# Altium schematic symbol library WA-SMSR.SchLib: 52 symbols
Pins are listed as number, name and electrical type; pins without a type are passive.

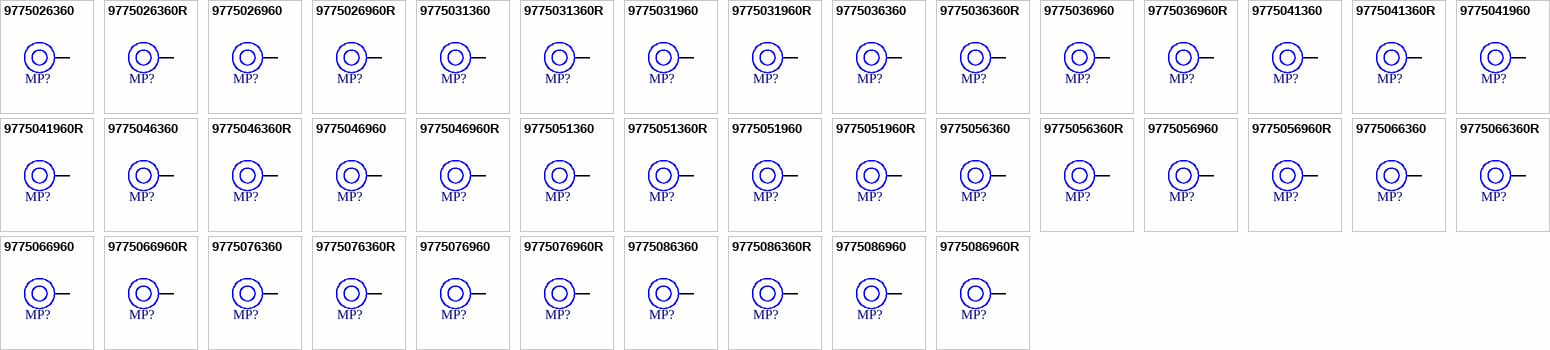
[diagram p0: symbols 9775026360 to 9775086960R]

## 9775026360
designator MP?, comment M3 x 2.6mm  (value not drawn)
WA-SMSR SMT Steel Spacer Reverse, M3 x 2.6mm; Manufacturer Part Number: 9775026360; Manufacturer: Wurth Elektronik; Inside Diameter: 4.2mm; Outside Diameter: 6mm; Surface: Tin; ComponentLink1Description: Website Link; ComponentLink1URL: https://www.we-online.com/redexpert/article/9775026360?ad; ComponentLink2Description: Datasheet Link; ComponentLink2URL: https://www.we-online.com/redexpert/spec/9775026360?ad; Category: SMT Spacers; Match Code: WA-SMSR; Mount: Surface Mount; Operating Temperature Max: 150°C; Operating Temperature Min: -55°C; Packaging: Bulk; Material: Steel; Pin Length: 2.6mm; Thread Size: M3
footprint 9775026360
pins: 1

## 9775026360R
designator MP?, comment M3 x 2.6mm  (value not drawn)
WA-SMSR SMT Steel Spacer Reverse, M3 x 2.6mm; Manufacturer Part Number: 9775026360R; Manufacturer: Wurth Elektronik; Inside Diameter: 4.2mm; Outside Diameter: 6mm; Surface: Tin; ComponentLink1Description: Website Link; ComponentLink1URL: https://www.we-online.com/redexpert/article/9775026360R?ad; ComponentLink2Description: Datasheet Link; ComponentLink2URL: https://www.we-online.com/redexpert/spec/9775026360R?ad; Category: SMT Spacers; Match Code: WA-SMSR; Mount: Surface Mount; Operating Temperature Max: 150°C; Operating Temperature Min: -55°C; Packaging: Tape and Reel; Material: Steel; Pin Length: 2.6mm; Thread Size: M3
footprint 9775026360
pins: 1

## 9775026960
designator MP?, comment hole 3.2mm x 2.6mm  (value not drawn)
WA-SMSR SMT Steel Spacer Reverse, hole 3.2mm x 2.6mm; Manufacturer Part Number: 9775026960; Manufacturer: Wurth Elektronik; Inside Diameter: 4.2mm; Outside Diameter: 6mm; Surface: Tin; ComponentLink1Description: Website Link; ComponentLink1URL: https://www.we-online.com/redexpert/article/9775026960?ad; ComponentLink2Description: Datasheet Link; ComponentLink2URL: https://www.we-online.com/redexpert/spec/9775026960?ad; Category: SMT Spacers; Match Code: WA-SMSR; Mount: Surface Mount; Operating Temperature Max: 150°C; Operating Temperature Min: -55°C; Packaging: Bulk; Hole Diameter: 3.2mm; Material: Steel; Pin Length: 2.6mm
footprint 9775026960
pins: 1

## 9775026960R
designator MP?, comment hole 3.2mm x 2.6mm  (value not drawn)
WA-SMSR SMT Steel Spacer Reverse, hole 3.2mm x 2.6mm; Manufacturer Part Number: 9775026960R; Manufacturer: Wurth Elektronik; Inside Diameter: 4.2mm; Outside Diameter: 6mm; Surface: Tin; ComponentLink1Description: Website Link; ComponentLink1URL: https://www.we-online.com/redexpert/article/9775026960R?ad; ComponentLink2Description: Datasheet Link; ComponentLink2URL: https://www.we-online.com/redexpert/spec/9775026960R?ad; Category: SMT Spacers; Match Code: WA-SMSR; Mount: Surface Mount; Operating Temperature Max: 150°C; Operating Temperature Min: -55°C; Packaging: Tape and Reel; Hole Diameter: 3.2mm; Material: Steel; Pin Length: 2.6mm
footprint 9775026960
pins: 1

## 9775031360
designator MP?, comment M3 x 3.1mm  (value not drawn)
WA-SMSR SMT Steel Spacer Reverse, M3 x 3.1mm; Manufacturer Part Number: 9775031360; Manufacturer: Wurth Elektronik; Inside Diameter: 4.2mm; Outside Diameter: 6mm; Surface: Tin; ComponentLink1Description: Website Link; ComponentLink1URL: https://www.we-online.com/redexpert/article/9775031360?ad; ComponentLink2Description: Datasheet Link; ComponentLink2URL: https://www.we-online.com/redexpert/spec/9775031360?ad; Category: SMT Spacers; Match Code: WA-SMSR; Mount: Surface Mount; Operating Temperature Max: 150°C; Operating Temperature Min: -55°C; Packaging: Bulk; Material: Steel; Pin Length: 3.1mm; Thread Size: M3
footprint 9775031360
pins: 1

## 9775031360R
designator MP?, comment M3 x 3.1mm  (value not drawn)
WA-SMSR SMT Steel Spacer Reverse, M3 x 3.1mm; Manufacturer Part Number: 9775031360R; Manufacturer: Wurth Elektronik; Inside Diameter: 4.2mm; Outside Diameter: 6mm; Surface: Tin; ComponentLink1Description: Website Link; ComponentLink1URL: https://www.we-online.com/redexpert/article/9775031360R?ad; ComponentLink2Description: Datasheet Link; ComponentLink2URL: https://www.we-online.com/redexpert/spec/9775031360R?ad; Category: SMT Spacers; Match Code: WA-SMSR; Mount: Surface Mount; Operating Temperature Max: 150°C; Operating Temperature Min: -55°C; Packaging: Tape and Reel; Material: Steel; Pin Length: 3.1mm; Thread Size: M3
footprint 9775031360
pins: 1

## 9775031960
designator MP?, comment hole 3.2mm x 3.1mm  (value not drawn)
WA-SMSR SMT Steel Spacer Reverse, hole 3.2mm x 3.1mm; Manufacturer Part Number: 9775031960; Manufacturer: Wurth Elektronik; Inside Diameter: 4.2mm; Outside Diameter: 6mm; Surface: Tin; ComponentLink1Description: Website Link; ComponentLink1URL: https://www.we-online.com/redexpert/article/9775031960?ad; ComponentLink2Description: Datasheet Link; ComponentLink2URL: https://www.we-online.com/redexpert/spec/9775031960?ad; Category: SMT Spacers; Match Code: WA-SMSR; Mount: Surface Mount; Operating Temperature Max: 150°C; Operating Temperature Min: -55°C; Packaging: Bulk; Hole Diameter: 3.2mm; Material: Steel; Pin Length: 3.1mm
footprint 9775031960
pins: 1

## 9775031960R
designator MP?, comment hole 3.2mm x 3.1mm  (value not drawn)
WA-SMSR SMT Steel Spacer Reverse, hole 3.2mm x 3.1mm; Manufacturer Part Number: 9775031960R; Manufacturer: Wurth Elektronik; Inside Diameter: 4.2mm; Outside Diameter: 6mm; Surface: Tin; ComponentLink1Description: Website Link; ComponentLink1URL: https://www.we-online.com/redexpert/article/9775031960R?ad; ComponentLink2Description: Datasheet Link; ComponentLink2URL: https://www.we-online.com/redexpert/spec/9775031960R?ad; Category: SMT Spacers; Match Code: WA-SMSR; Mount: Surface Mount; Operating Temperature Max: 150°C; Operating Temperature Min: -55°C; Packaging: Tape and Reel; Hole Diameter: 3.2mm; Material: Steel; Pin Length: 3.1mm
footprint 9775031960
pins: 1

## 9775036360
designator MP?, comment M3 x 3.6mm  (value not drawn)
WA-SMSR SMT Steel Spacer Reverse, M3 x 3.6mm; Manufacturer Part Number: 9775036360; Manufacturer: Wurth Elektronik; Inside Diameter: 4.2mm; Outside Diameter: 6mm; Surface: Tin; ComponentLink1Description: Website Link; ComponentLink1URL: https://www.we-online.com/redexpert/article/9775036360?ad; ComponentLink2Description: Datasheet Link; ComponentLink2URL: https://www.we-online.com/redexpert/spec/9775036360?ad; Category: SMT Spacers; Match Code: WA-SMSR; Mount: Surface Mount; Operating Temperature Max: 150°C; Operating Temperature Min: -55°C; Packaging: Bulk; Material: Steel; Pin Length: 3.6mm; Thread Size: M3
footprint 9775036360
pins: 1

## 9775036360R
designator MP?, comment M3 x 3.6mm  (value not drawn)
WA-SMSR SMT Steel Spacer Reverse, M3 x 3.6mm; Manufacturer Part Number: 9775036360R; Manufacturer: Wurth Elektronik; Inside Diameter: 4.2mm; Outside Diameter: 6mm; Surface: Tin; ComponentLink1Description: Website Link; ComponentLink1URL: https://www.we-online.com/redexpert/article/9775036360R?ad; ComponentLink2Description: Datasheet Link; ComponentLink2URL: https://www.we-online.com/redexpert/spec/9775036360R?ad; Category: SMT Spacers; Match Code: WA-SMSR; Mount: Surface Mount; Operating Temperature Max: 150°C; Operating Temperature Min: -55°C; Packaging: Tape and Reel; Material: Steel; Pin Length: 3.6mm; Thread Size: M3
footprint 9775036360
pins: 1

## 9775036960
designator MP?, comment hole 3.2mm x 3.6mm  (value not drawn)
WA-SMSR SMT Steel Spacer Reverse, hole 3.2mm x 3.6mm; Manufacturer Part Number: 9775036960; Manufacturer: Wurth Elektronik; Inside Diameter: 4.2mm; Outside Diameter: 6mm; Surface: Tin; ComponentLink1Description: Website Link; ComponentLink1URL: https://www.we-online.com/redexpert/article/9775036960?ad; ComponentLink2Description: Datasheet Link; ComponentLink2URL: https://www.we-online.com/redexpert/spec/9775036960?ad; Category: SMT Spacers; Match Code: WA-SMSR; Mount: Surface Mount; Operating Temperature Max: 150°C; Operating Temperature Min: -55°C; Packaging: Bulk; Hole Diameter: 3.2mm; Material: Steel; Pin Length: 3.6mm
footprint 9775036960
pins: 1

## 9775036960R
designator MP?, comment hole 3.2mm x 3.6mm  (value not drawn)
WA-SMSR SMT Steel Spacer Reverse, hole 3.2mm x 3.6mm; Manufacturer Part Number: 9775036960R; Manufacturer: Wurth Elektronik; Inside Diameter: 4.2mm; Outside Diameter: 6mm; Surface: Tin; ComponentLink1Description: Website Link; ComponentLink1URL: https://www.we-online.com/redexpert/article/9775036960R?ad; ComponentLink2Description: Datasheet Link; ComponentLink2URL: https://www.we-online.com/redexpert/spec/9775036960R?ad; Category: SMT Spacers; Match Code: WA-SMSR; Mount: Surface Mount; Operating Temperature Max: 150°C; Operating Temperature Min: -55°C; Packaging: Tape and Reel; Hole Diameter: 3.2mm; Material: Steel; Pin Length: 3.6mm
footprint 9775036960
pins: 1

## 9775041360
designator MP?, comment M3 x 4.1mm  (value not drawn)
WA-SMSR SMT Steel Spacer Reverse, M3 x 4.1mm; Manufacturer Part Number: 9775041360; Manufacturer: Wurth Elektronik; Inside Diameter: 4.2mm; Outside Diameter: 6mm; Surface: Tin; ComponentLink1Description: Website Link; ComponentLink1URL: https://www.we-online.com/redexpert/article/9775041360?ad; ComponentLink2Description: Datasheet Link; ComponentLink2URL: https://www.we-online.com/redexpert/spec/9775041360?ad; Category: SMT Spacers; Match Code: WA-SMSR; Mount: Surface Mount; Operating Temperature Max: 150°C; Operating Temperature Min: -55°C; Packaging: Bulk; Material: Steel; Pin Length: 4.1mm; Thread Size: M3
footprint 9775041360
pins: 1

## 9775041360R
designator MP?, comment M3 x 4.1mm  (value not drawn)
WA-SMSR SMT Steel Spacer Reverse, M3 x 4.1mm; Manufacturer Part Number: 9775041360R; Manufacturer: Wurth Elektronik; Inside Diameter: 4.2mm; Outside Diameter: 6mm; Surface: Tin; ComponentLink1Description: Website Link; ComponentLink1URL: https://www.we-online.com/redexpert/article/9775041360R?ad; ComponentLink2Description: Datasheet Link; ComponentLink2URL: https://www.we-online.com/redexpert/spec/9775041360R?ad; Category: SMT Spacers; Match Code: WA-SMSR; Mount: Surface Mount; Operating Temperature Max: 150°C; Operating Temperature Min: -55°C; Packaging: Tape and Reel; Material: Steel; Pin Length: 4.1mm; Thread Size: M3
footprint 9775041360
pins: 1

## 9775041960
designator MP?, comment hole 3.2mm x 4.1mm  (value not drawn)
WA-SMSR SMT Steel Spacer Reverse, hole 3.2mm x 4.1mm; Manufacturer Part Number: 9775041960; Manufacturer: Wurth Elektronik; Inside Diameter: 4.2mm; Outside Diameter: 6mm; Surface: Tin; ComponentLink1Description: Website Link; ComponentLink1URL: https://www.we-online.com/redexpert/article/9775041960?ad; ComponentLink2Description: Datasheet Link; ComponentLink2URL: https://www.we-online.com/redexpert/spec/9775041960?ad; Category: SMT Spacers; Match Code: WA-SMSR; Mount: Surface Mount; Operating Temperature Max: 150°C; Operating Temperature Min: -55°C; Packaging: Bulk; Hole Diameter: 3.2mm; Material: Steel; Pin Length: 4.1mm
footprint 9775041960
pins: 1

## 9775041960R
designator MP?, comment hole 3.2mm x 4.1mm  (value not drawn)
WA-SMSR SMT Steel Spacer Reverse, hole 3.2mm x 4.1mm; Manufacturer Part Number: 9775041960R; Manufacturer: Wurth Elektronik; Inside Diameter: 4.2mm; Outside Diameter: 6mm; Surface: Tin; ComponentLink1Description: Website Link; ComponentLink1URL: https://www.we-online.com/redexpert/article/9775041960R?ad; ComponentLink2Description: Datasheet Link; ComponentLink2URL: https://www.we-online.com/redexpert/spec/9775041960R?ad; Category: SMT Spacers; Match Code: WA-SMSR; Mount: Surface Mount; Operating Temperature Max: 150°C; Operating Temperature Min: -55°C; Packaging: Tape and Reel; Hole Diameter: 3.2mm; Material: Steel; Pin Length: 4.1mm
footprint 9775041960
pins: 1

## 9775046360
designator MP?, comment M3 x 4.6mm  (value not drawn)
WA-SMSR SMT Steel Spacer Reverse, M3 x 4.6mm; Manufacturer Part Number: 9775046360; Manufacturer: Wurth Elektronik; Inside Diameter: 4.2mm; Outside Diameter: 6mm; Surface: Tin; ComponentLink1Description: Website Link; ComponentLink1URL: https://www.we-online.com/redexpert/article/9775046360?ad; ComponentLink2Description: Datasheet Link; ComponentLink2URL: https://www.we-online.com/redexpert/spec/9775046360?ad; Category: SMT Spacers; Match Code: WA-SMSR; Mount: Surface Mount; Operating Temperature Max: 150°C; Operating Temperature Min: -55°C; Packaging: Bulk; Material: Steel; Pin Length: 4.6mm; Thread Size: M3
footprint 9775046360
pins: 1

## 9775046360R
designator MP?, comment M3 x 4.6mm  (value not drawn)
WA-SMSR SMT Steel Spacer Reverse, M3 x 4.6mm; Manufacturer Part Number: 9775046360R; Manufacturer: Wurth Elektronik; Inside Diameter: 4.2mm; Outside Diameter: 6mm; Surface: Tin; ComponentLink1Description: Website Link; ComponentLink1URL: https://www.we-online.com/redexpert/article/9775046360R?ad; ComponentLink2Description: Datasheet Link; ComponentLink2URL: https://www.we-online.com/redexpert/spec/9775046360R?ad; Category: SMT Spacers; Match Code: WA-SMSR; Mount: Surface Mount; Operating Temperature Max: 150°C; Operating Temperature Min: -55°C; Packaging: Tape and Reel; Material: Steel; Pin Length: 4.6mm; Thread Size: M3
footprint 9775046360
pins: 1

## 9775046960
designator MP?, comment hole 3.2mm x 4.6mm  (value not drawn)
WA-SMSR SMT Steel Spacer Reverse, hole 3.2mm x 4.6mm; Manufacturer Part Number: 9775046960; Manufacturer: Wurth Elektronik; Inside Diameter: 4.2mm; Outside Diameter: 6mm; Surface: Tin; ComponentLink1Description: Website Link; ComponentLink1URL: https://www.we-online.com/redexpert/article/9775046960?ad; ComponentLink2Description: Datasheet Link; ComponentLink2URL: https://www.we-online.com/redexpert/spec/9775046960?ad; Category: SMT Spacers; Match Code: WA-SMSR; Mount: Surface Mount; Operating Temperature Max: 150°C; Operating Temperature Min: -55°C; Packaging: Bulk; Hole Diameter: 3.2mm; Material: Steel; Pin Length: 4.6mm
footprint 9775046960
pins: 1

## 9775046960R
designator MP?, comment hole 3.2mm x 4.6mm  (value not drawn)
WA-SMSR SMT Steel Spacer Reverse, hole 3.2mm x 4.6mm; Manufacturer Part Number: 9775046960R; Manufacturer: Wurth Elektronik; Inside Diameter: 4.2mm; Outside Diameter: 6mm; Surface: Tin; ComponentLink1Description: Website Link; ComponentLink1URL: https://www.we-online.com/redexpert/article/9775046960R?ad; ComponentLink2Description: Datasheet Link; ComponentLink2URL: https://www.we-online.com/redexpert/spec/9775046960R?ad; Category: SMT Spacers; Match Code: WA-SMSR; Mount: Surface Mount; Operating Temperature Max: 150°C; Operating Temperature Min: -55°C; Packaging: Tape and Reel; Hole Diameter: 3.2mm; Material: Steel; Pin Length: 4.6mm
footprint 9775046960
pins: 1

## 9775051360
designator MP?, comment M3 x 5.1mm  (value not drawn)
WA-SMSR SMT Steel Spacer Reverse, M3 x 5.1mm; Manufacturer Part Number: 9775051360; Manufacturer: Wurth Elektronik; Inside Diameter: 4.2mm; Outside Diameter: 6mm; Surface: Tin; ComponentLink1Description: Website Link; ComponentLink1URL: https://www.we-online.com/redexpert/article/9775051360?ad; ComponentLink2Description: Datasheet Link; ComponentLink2URL: https://www.we-online.com/redexpert/spec/9775051360?ad; Category: SMT Spacers; Match Code: WA-SMSR; Mount: Surface Mount; Operating Temperature Max: 150°C; Operating Temperature Min: -55°C; Packaging: Bulk; Material: Steel; Pin Length: 5.1mm; Thread Size: M3
footprint 9775051360
pins: 1

## 9775051360R
designator MP?, comment M3 x 5.1mm  (value not drawn)
WA-SMSR SMT Steel Spacer Reverse, M3 x 5.1mm; Manufacturer Part Number: 9775051360R; Manufacturer: Wurth Elektronik; Inside Diameter: 4.2mm; Outside Diameter: 6mm; Surface: Tin; ComponentLink1Description: Website Link; ComponentLink1URL: https://www.we-online.com/redexpert/article/9775051360R?ad; ComponentLink2Description: Datasheet Link; ComponentLink2URL: https://www.we-online.com/redexpert/spec/9775051360R?ad; Category: SMT Spacers; Match Code: WA-SMSR; Mount: Surface Mount; Operating Temperature Max: 150°C; Operating Temperature Min: -55°C; Packaging: Tape and Reel; Material: Steel; Pin Length: 5.1mm; Thread Size: M3
footprint 9775051360
pins: 1

## 9775051960
designator MP?, comment hole 3.2mm x 5.1mm  (value not drawn)
WA-SMSR SMT Steel Spacer Reverse, hole 3.2mm x 5.1mm; Manufacturer Part Number: 9775051960; Manufacturer: Wurth Elektronik; Inside Diameter: 4.2mm; Outside Diameter: 6mm; Surface: Tin; ComponentLink1Description: Website Link; ComponentLink1URL: https://www.we-online.com/redexpert/article/9775051960?ad; ComponentLink2Description: Datasheet Link; ComponentLink2URL: https://www.we-online.com/redexpert/spec/9775051960?ad; Category: SMT Spacers; Match Code: WA-SMSR; Mount: Surface Mount; Operating Temperature Max: 150°C; Operating Temperature Min: -55°C; Packaging: Bulk; Hole Diameter: 3.2mm; Material: Steel; Pin Length: 5.1mm
footprint 9775051960
pins: 1

## 9775051960R
designator MP?, comment hole 3.2mm x 5.1mm  (value not drawn)
WA-SMSR SMT Steel Spacer Reverse, hole 3.2mm x 5.1mm; Manufacturer Part Number: 9775051960R; Manufacturer: Wurth Elektronik; Inside Diameter: 4.2mm; Outside Diameter: 6mm; Surface: Tin; ComponentLink1Description: Website Link; ComponentLink1URL: https://www.we-online.com/redexpert/article/9775051960R?ad; ComponentLink2Description: Datasheet Link; ComponentLink2URL: https://www.we-online.com/redexpert/spec/9775051960R?ad; Category: SMT Spacers; Match Code: WA-SMSR; Mount: Surface Mount; Operating Temperature Max: 150°C; Operating Temperature Min: -55°C; Packaging: Tape and Reel; Hole Diameter: 3.2mm; Material: Steel; Pin Length: 5.1mm
footprint 9775051960
pins: 1

## 9775056360
designator MP?, comment M3 x 5.6mm  (value not drawn)
WA-SMSR SMT Steel Spacer Reverse, M3 x 5.6mm; Manufacturer Part Number: 9775056360; Manufacturer: Wurth Elektronik; Inside Diameter: 4.2mm; Outside Diameter: 6mm; Surface: Tin; ComponentLink1Description: Website Link; ComponentLink1URL: https://www.we-online.com/redexpert/article/9775056360?ad; ComponentLink2Description: Datasheet Link; ComponentLink2URL: https://www.we-online.com/redexpert/spec/9775056360?ad; Category: SMT Spacers; Match Code: WA-SMSR; Mount: Surface Mount; Operating Temperature Max: 150°C; Operating Temperature Min: -55°C; Packaging: Bulk; Material: Steel; Pin Length: 5.6mm; Thread Size: M3
footprint 9775056360
pins: 1

## 9775056360R
designator MP?, comment M3 x 5.6mm  (value not drawn)
WA-SMSR SMT Steel Spacer Reverse, M3 x 5.6mm; Manufacturer Part Number: 9775056360R; Manufacturer: Wurth Elektronik; Inside Diameter: 4.2mm; Outside Diameter: 6mm; Surface: Tin; ComponentLink1Description: Website Link; ComponentLink1URL: https://www.we-online.com/redexpert/article/9775056360R?ad; ComponentLink2Description: Datasheet Link; ComponentLink2URL: https://www.we-online.com/redexpert/spec/9775056360R?ad; Category: SMT Spacers; Match Code: WA-SMSR; Mount: Surface Mount; Operating Temperature Max: 150°C; Operating Temperature Min: -55°C; Packaging: Tape and Reel; Material: Steel; Pin Length: 5.6mm; Thread Size: M3
footprint 9775056360
pins: 1

## 9775056960
designator MP?, comment hole 3.2mm x 5.6mm  (value not drawn)
WA-SMSR SMT Steel Spacer Reverse, hole 3.2mm x 5.6mm; Manufacturer Part Number: 9775056960; Manufacturer: Wurth Elektronik; Inside Diameter: 4.2mm; Outside Diameter: 6mm; Surface: Tin; ComponentLink1Description: Website Link; ComponentLink1URL: https://www.we-online.com/redexpert/article/9775056960?ad; ComponentLink2Description: Datasheet Link; ComponentLink2URL: https://www.we-online.com/redexpert/spec/9775056960?ad; Category: SMT Spacers; Match Code: WA-SMSR; Mount: Surface Mount; Operating Temperature Max: 150°C; Operating Temperature Min: -55°C; Packaging: Bulk; Hole Diameter: 3.2mm; Material: Steel; Pin Length: 5.6mm
footprint 9775056960
pins: 1

## 9775056960R
designator MP?, comment hole 3.2mm x 5.6mm  (value not drawn)
WA-SMSR SMT Steel Spacer Reverse, hole 3.2mm x 5.6mm; Manufacturer Part Number: 9775056960R; Manufacturer: Wurth Elektronik; Inside Diameter: 4.2mm; Outside Diameter: 6mm; Surface: Tin; ComponentLink1Description: Website Link; ComponentLink1URL: https://www.we-online.com/redexpert/article/9775056960R?ad; ComponentLink2Description: Datasheet Link; ComponentLink2URL: https://www.we-online.com/redexpert/spec/9775056960R?ad; Category: SMT Spacers; Match Code: WA-SMSR; Mount: Surface Mount; Operating Temperature Max: 150°C; Operating Temperature Min: -55°C; Packaging: Tape and Reel; Hole Diameter: 3.2mm; Material: Steel; Pin Length: 5.6mm
footprint 9775056960
pins: 1

## 9775066360
designator MP?, comment M3 x 6.6mm  (value not drawn)
WA-SMSR SMT Steel Spacer Reverse, M3 x 6.6mm; Manufacturer Part Number: 9775066360; Manufacturer: Wurth Elektronik; Inside Diameter: 4.2mm; Outside Diameter: 6mm; Surface: Tin; ComponentLink1Description: Website Link; ComponentLink1URL: https://www.we-online.com/redexpert/article/9775066360?ad; ComponentLink2Description: Datasheet Link; ComponentLink2URL: https://www.we-online.com/redexpert/spec/9775066360?ad; Category: SMT Spacers; Match Code: WA-SMSR; Mount: Surface Mount; Operating Temperature Max: 150°C; Operating Temperature Min: -55°C; Packaging: Bulk; Material: Steel; Pin Length: 6.6mm; Thread Size: M3
footprint 9775066360
pins: 1

## 9775066360R
designator MP?, comment M3 x 6.6mm  (value not drawn)
WA-SMSR SMT Steel Spacer Reverse, M3 x 6.6mm; Manufacturer Part Number: 9775066360R; Manufacturer: Wurth Elektronik; Inside Diameter: 4.2mm; Outside Diameter: 6mm; Surface: Tin; ComponentLink1Description: Website Link; ComponentLink1URL: https://www.we-online.com/redexpert/article/9775066360R?ad; ComponentLink2Description: Datasheet Link; ComponentLink2URL: https://www.we-online.com/redexpert/spec/9775066360R?ad; Category: SMT Spacers; Match Code: WA-SMSR; Mount: Surface Mount; Operating Temperature Max: 150°C; Operating Temperature Min: -55°C; Packaging: Tape and Reel; Material: Steel; Pin Length: 6.6mm; Thread Size: M3
footprint 9775066360
pins: 1

## 9775066960
designator MP?, comment hole 3.2mm x 6.6mm  (value not drawn)
WA-SMSR SMT Steel Spacer Reverse, hole 3.2mm x 6.6mm; Manufacturer Part Number: 9775066960; Manufacturer: Wurth Elektronik; Inside Diameter: 4.2mm; Outside Diameter: 6mm; Surface: Tin; ComponentLink1Description: Website Link; ComponentLink1URL: https://www.we-online.com/redexpert/article/9775066960?ad; ComponentLink2Description: Datasheet Link; ComponentLink2URL: https://www.we-online.com/redexpert/spec/9775066960?ad; Category: SMT Spacers; Match Code: WA-SMSR; Mount: Surface Mount; Operating Temperature Max: 150°C; Operating Temperature Min: -55°C; Packaging: Bulk; Hole Diameter: 3.2mm; Material: Steel; Pin Length: 6.6mm
footprint 9775066960
pins: 1

## 9775066960R
designator MP?, comment hole 3.2mm x 6.6mm  (value not drawn)
WA-SMSR SMT Steel Spacer Reverse, hole 3.2mm x 6.6mm; Manufacturer Part Number: 9775066960R; Manufacturer: Wurth Elektronik; Inside Diameter: 4.2mm; Outside Diameter: 6mm; Surface: Tin; ComponentLink1Description: Website Link; ComponentLink1URL: https://www.we-online.com/redexpert/article/9775066960R?ad; ComponentLink2Description: Datasheet Link; ComponentLink2URL: https://www.we-online.com/redexpert/spec/9775066960R?ad; Category: SMT Spacers; Match Code: WA-SMSR; Mount: Surface Mount; Operating Temperature Max: 150°C; Operating Temperature Min: -55°C; Packaging: Tape and Reel; Hole Diameter: 3.2mm; Material: Steel; Pin Length: 6.6mm
footprint 9775066960
pins: 1

## 9775076360
designator MP?, comment M3 x 7.6mm  (value not drawn)
WA-SMSR SMT Steel Spacer Reverse, M3 x 7.6mm; Manufacturer Part Number: 9775076360; Manufacturer: Wurth Elektronik; Inside Diameter: 4.2mm; Outside Diameter: 6mm; Surface: Tin; ComponentLink1Description: Website Link; ComponentLink1URL: https://www.we-online.com/redexpert/article/9775076360?ad; ComponentLink2Description: Datasheet Link; ComponentLink2URL: https://www.we-online.com/redexpert/spec/9775076360?ad; Category: SMT Spacers; Match Code: WA-SMSR; Mount: Surface Mount; Operating Temperature Max: 150°C; Operating Temperature Min: -55°C; Packaging: Bulk; Material: Steel; Pin Length: 7.6mm; Thread Size: M3
footprint 9775076360
pins: 1

## 9775076360R
designator MP?, comment M3 x 7.6mm  (value not drawn)
WA-SMSR SMT Steel Spacer Reverse, M3 x 7.6mm; Manufacturer Part Number: 9775076360R; Manufacturer: Wurth Elektronik; Inside Diameter: 4.2mm; Outside Diameter: 6mm; Surface: Tin; ComponentLink1Description: Website Link; ComponentLink1URL: https://www.we-online.com/redexpert/article/9775076360R?ad; ComponentLink2Description: Datasheet Link; ComponentLink2URL: https://www.we-online.com/redexpert/spec/9775076360R?ad; Category: SMT Spacers; Match Code: WA-SMSR; Mount: Surface Mount; Operating Temperature Max: 150°C; Operating Temperature Min: -55°C; Packaging: Tape and Reel; Material: Steel; Pin Length: 7.6mm; Thread Size: M3
footprint 9775076360
pins: 1

## 9775076960
designator MP?, comment hole 3.2mm x 7.6mm  (value not drawn)
WA-SMSR SMT Steel Spacer Reverse, hole 3.2mm x 7.6mm; Manufacturer Part Number: 9775076960; Manufacturer: Wurth Elektronik; Inside Diameter: 4.2mm; Outside Diameter: 6mm; Surface: Tin; ComponentLink1Description: Website Link; ComponentLink1URL: https://www.we-online.com/redexpert/article/9775076960?ad; ComponentLink2Description: Datasheet Link; ComponentLink2URL: https://www.we-online.com/redexpert/spec/9775076960?ad; Category: SMT Spacers; Match Code: WA-SMSR; Mount: Surface Mount; Operating Temperature Max: 150°C; Operating Temperature Min: -55°C; Packaging: Bulk; Hole Diameter: 3.2mm; Material: Steel; Pin Length: 7.6mm
footprint 9775076960
pins: 1

## 9775076960R
designator MP?, comment hole 3.2mm x 7.6mm  (value not drawn)
WA-SMSR SMT Steel Spacer Reverse, hole 3.2mm x 7.6mm; Manufacturer Part Number: 9775076960R; Manufacturer: Wurth Elektronik; Inside Diameter: 4.2mm; Outside Diameter: 6mm; Surface: Tin; ComponentLink1Description: Website Link; ComponentLink1URL: https://www.we-online.com/redexpert/article/9775076960R?ad; ComponentLink2Description: Datasheet Link; ComponentLink2URL: https://www.we-online.com/redexpert/spec/9775076960R?ad; Category: SMT Spacers; Match Code: WA-SMSR; Mount: Surface Mount; Operating Temperature Max: 150°C; Operating Temperature Min: -55°C; Packaging: Tape and Reel; Hole Diameter: 3.2mm; Material: Steel; Pin Length: 7.6mm
footprint 9775076960
pins: 1

## 9775086360
designator MP?, comment M3 x 8.6mm  (value not drawn)
WA-SMSR SMT Steel Spacer Reverse, M3 x 8.6mm; Manufacturer Part Number: 9775086360; Manufacturer: Wurth Elektronik; Inside Diameter: 4.2mm; Outside Diameter: 6mm; Surface: Tin; ComponentLink1Description: Website Link; ComponentLink1URL: https://www.we-online.com/redexpert/article/9775086360?ad; ComponentLink2Description: Datasheet Link; ComponentLink2URL: https://www.we-online.com/redexpert/spec/9775086360?ad; Category: SMT Spacers; Match Code: WA-SMSR; Mount: Surface Mount; Operating Temperature Max: 150°C; Operating Temperature Min: -55°C; Packaging: Bulk; Material: Steel; Pin Length: 8.6mm; Thread Size: M3
footprint 9775086360
pins: 1

## 9775086360R
designator MP?, comment M3 x 8.6mm  (value not drawn)
WA-SMSR SMT Steel Spacer Reverse, M3 x 8.6mm; Manufacturer Part Number: 9775086360R; Manufacturer: Wurth Elektronik; Inside Diameter: 4.2mm; Outside Diameter: 6mm; Surface: Tin; ComponentLink1Description: Website Link; ComponentLink1URL: https://www.we-online.com/redexpert/article/9775086360R?ad; ComponentLink2Description: Datasheet Link; ComponentLink2URL: https://www.we-online.com/redexpert/spec/9775086360R?ad; Category: SMT Spacers; Match Code: WA-SMSR; Mount: Surface Mount; Operating Temperature Max: 150°C; Operating Temperature Min: -55°C; Packaging: Tape and Reel; Material: Steel; Pin Length: 8.6mm; Thread Size: M3
footprint 9775086360
pins: 1

## 9775086960
designator MP?, comment hole 3.2mm x 8.6mm  (value not drawn)
WA-SMSR SMT Steel Spacer Reverse, hole 3.2mm x 8.6mm; Manufacturer Part Number: 9775086960; Manufacturer: Wurth Elektronik; Inside Diameter: 4.2mm; Outside Diameter: 6mm; Surface: Tin; ComponentLink1Description: Website Link; ComponentLink1URL: https://www.we-online.com/redexpert/article/9775086960?ad; ComponentLink2Description: Datasheet Link; ComponentLink2URL: https://www.we-online.com/redexpert/spec/9775086960?ad; Category: SMT Spacers; Match Code: WA-SMSR; Mount: Surface Mount; Operating Temperature Max: 150°C; Operating Temperature Min: -55°C; Packaging: Bulk; Hole Diameter: 3.2mm; Material: Steel; Pin Length: 8.6mm
footprint 9775086960
pins: 1

## 9775086960R
designator MP?, comment hole 3.2mm x 8.6mm  (value not drawn)
WA-SMSR SMT Steel Spacer Reverse, hole 3.2mm x 8.6mm; Manufacturer Part Number: 9775086960R; Manufacturer: Wurth Elektronik; Inside Diameter: 4.2mm; Outside Diameter: 6mm; Surface: Tin; ComponentLink1Description: Website Link; ComponentLink1URL: https://www.we-online.com/redexpert/article/9775086960R?ad; ComponentLink2Description: Datasheet Link; ComponentLink2URL: https://www.we-online.com/redexpert/spec/9775086960R?ad; Category: SMT Spacers; Match Code: WA-SMSR; Mount: Surface Mount; Operating Temperature Max: 150°C; Operating Temperature Min: -55°C; Packaging: Tape and Reel; Hole Diameter: 3.2mm; Material: Steel; Pin Length: 8.6mm
footprint 9775086960
pins: 1

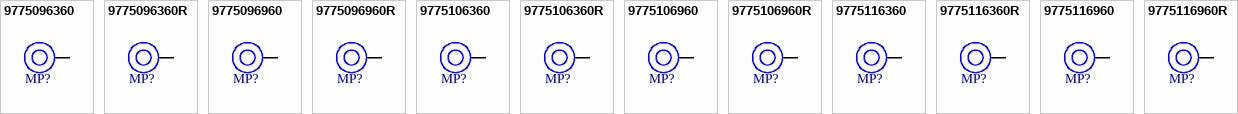
[diagram p1: symbols 9775096360 to 9775116960R]

## 9775096360
designator MP?, comment M3 x 9.6mm  (value not drawn)
WA-SMSR SMT Steel Spacer Reverse, M3 x 9.6mm; Manufacturer Part Number: 9775096360; Manufacturer: Wurth Elektronik; Inside Diameter: 4.2mm; Outside Diameter: 6mm; Surface: Tin; ComponentLink1Description: Website Link; ComponentLink1URL: https://www.we-online.com/redexpert/article/9775096360?ad; ComponentLink2Description: Datasheet Link; ComponentLink2URL: https://www.we-online.com/redexpert/spec/9775096360?ad; Category: SMT Spacers; Match Code: WA-SMSR; Mount: Surface Mount; Operating Temperature Max: 150°C; Operating Temperature Min: -55°C; Packaging: Bulk; Material: Steel; Pin Length: 9.6mm; Thread Size: M3
footprint 9775096360
pins: 1

## 9775096360R
designator MP?, comment M3 x 9.6mm  (value not drawn)
WA-SMSR SMT Steel Spacer Reverse, M3 x 9.6mm; Manufacturer Part Number: 9775096360R; Manufacturer: Wurth Elektronik; Inside Diameter: 4.2mm; Outside Diameter: 6mm; Surface: Tin; ComponentLink1Description: Website Link; ComponentLink1URL: https://www.we-online.com/redexpert/article/9775096360R?ad; ComponentLink2Description: Datasheet Link; ComponentLink2URL: https://www.we-online.com/redexpert/spec/9775096360R?ad; Category: SMT Spacers; Match Code: WA-SMSR; Mount: Surface Mount; Operating Temperature Max: 150°C; Operating Temperature Min: -55°C; Packaging: Tape and Reel; Material: Steel; Pin Length: 9.6mm; Thread Size: M3
footprint 9775096360
pins: 1

## 9775096960
designator MP?, comment hole 3.2mm x 9.6mm  (value not drawn)
WA-SMSR SMT Steel Spacer Reverse, hole 3.2mm x 9.6mm; Manufacturer Part Number: 9775096960; Manufacturer: Wurth Elektronik; Inside Diameter: 4.2mm; Outside Diameter: 6mm; Surface: Tin; ComponentLink1Description: Website Link; ComponentLink1URL: https://www.we-online.com/redexpert/article/9775096960?ad; ComponentLink2Description: Datasheet Link; ComponentLink2URL: https://www.we-online.com/redexpert/spec/9775096960?ad; Category: SMT Spacers; Match Code: WA-SMSR; Mount: Surface Mount; Operating Temperature Max: 150°C; Operating Temperature Min: -55°C; Packaging: Bulk; Hole Diameter: 3.2mm; Material: Steel; Pin Length: 9.6mm
footprint 9775096960
pins: 1

## 9775096960R
designator MP?, comment hole 3.2mm x 9.6mm  (value not drawn)
WA-SMSR SMT Steel Spacer Reverse, hole 3.2mm x 9.6mm; Manufacturer Part Number: 9775096960R; Manufacturer: Wurth Elektronik; Inside Diameter: 4.2mm; Outside Diameter: 6mm; Surface: Tin; ComponentLink1Description: Website Link; ComponentLink1URL: https://www.we-online.com/redexpert/article/9775096960R?ad; ComponentLink2Description: Datasheet Link; ComponentLink2URL: https://www.we-online.com/redexpert/spec/9775096960R?ad; Category: SMT Spacers; Match Code: WA-SMSR; Mount: Surface Mount; Operating Temperature Max: 150°C; Operating Temperature Min: -55°C; Packaging: Tape and Reel; Hole Diameter: 3.2mm; Material: Steel; Pin Length: 9.6mm
footprint 9775096960
pins: 1

## 9775106360
designator MP?, comment M3 x 10.6mm  (value not drawn)
WA-SMSR SMT Steel Spacer Reverse, M3 x 10.6mm; Manufacturer Part Number: 9775106360; Manufacturer: Wurth Elektronik; Inside Diameter: 4.2mm; Outside Diameter: 6mm; Surface: Tin; ComponentLink1Description: Website Link; ComponentLink1URL: https://www.we-online.com/redexpert/article/9775106360?ad; ComponentLink2Description: Datasheet Link; ComponentLink2URL: https://www.we-online.com/redexpert/spec/9775106360?ad; Category: SMT Spacers; Match Code: WA-SMSR; Mount: Surface Mount; Operating Temperature Max: 150°C; Operating Temperature Min: -55°C; Packaging: Bulk; Material: Steel; Pin Length: 10.6mm; Thread Size: M3
footprint 9775106360
pins: 1

## 9775106360R
designator MP?, comment M3 x 10.6mm  (value not drawn)
WA-SMSR SMT Steel Spacer Reverse, M3 x 10.6mm; Manufacturer Part Number: 9775106360R; Manufacturer: Wurth Elektronik; Inside Diameter: 4.2mm; Outside Diameter: 6mm; Surface: Tin; ComponentLink1Description: Website Link; ComponentLink1URL: https://www.we-online.com/redexpert/article/9775106360R?ad; ComponentLink2Description: Datasheet Link; ComponentLink2URL: https://www.we-online.com/redexpert/spec/9775106360R?ad; Category: SMT Spacers; Match Code: WA-SMSR; Mount: Surface Mount; Operating Temperature Max: 150°C; Operating Temperature Min: -55°C; Packaging: Tape and Reel; Material: Steel; Pin Length: 10.6mm; Thread Size: M3
footprint 9775106360
pins: 1

## 9775106960
designator MP?, comment hole 3.2mm x 10.6mm  (value not drawn)
WA-SMSR SMT Steel Spacer Reverse, hole 3.2mm x 10.6mm; Manufacturer Part Number: 9775106960; Manufacturer: Wurth Elektronik; Inside Diameter: 4.2mm; Outside Diameter: 6mm; Surface: Tin; ComponentLink1Description: Website Link; ComponentLink1URL: https://www.we-online.com/redexpert/article/9775106960?ad; ComponentLink2Description: Datasheet Link; ComponentLink2URL: https://www.we-online.com/redexpert/spec/9775106960?ad; Category: SMT Spacers; Match Code: WA-SMSR; Mount: Surface Mount; Operating Temperature Max: 150°C; Operating Temperature Min: -55°C; Packaging: Bulk; Hole Diameter: 3.2mm; Material: Steel; Pin Length: 10.6mm
footprint 9775106960
pins: 1

## 9775106960R
designator MP?, comment hole 3.2mm x 10.6mm  (value not drawn)
WA-SMSR SMT Steel Spacer Reverse, hole 3.2mm x 10.6mm; Manufacturer Part Number: 9775106960R; Manufacturer: Wurth Elektronik; Inside Diameter: 4.2mm; Outside Diameter: 6mm; Surface: Tin; ComponentLink1Description: Website Link; ComponentLink1URL: https://www.we-online.com/redexpert/article/9775106960R?ad; ComponentLink2Description: Datasheet Link; ComponentLink2URL: https://www.we-online.com/redexpert/spec/9775106960R?ad; Category: SMT Spacers; Match Code: WA-SMSR; Mount: Surface Mount; Operating Temperature Max: 150°C; Operating Temperature Min: -55°C; Packaging: Tape and Reel; Hole Diameter: 3.2mm; Material: Steel; Pin Length: 10.6mm
footprint 9775106960
pins: 1

## 9775116360
designator MP?, comment M3 x 11.6mm  (value not drawn)
WA-SMSR SMT Steel Spacer Reverse, M3 x 11.6mm; Manufacturer Part Number: 9775116360; Manufacturer: Wurth Elektronik; Inside Diameter: 4.2mm; Outside Diameter: 6mm; Surface: Tin; ComponentLink1Description: Website Link; ComponentLink1URL: https://www.we-online.com/redexpert/article/9775116360?ad; ComponentLink2Description: Datasheet Link; ComponentLink2URL: https://www.we-online.com/redexpert/spec/9775116360?ad; Category: SMT Spacers; Match Code: WA-SMSR; Mount: Surface Mount; Operating Temperature Max: 150°C; Operating Temperature Min: -55°C; Packaging: Bulk; Material: Steel; Pin Length: 11.6mm; Thread Size: M3
footprint 9775116360
pins: 1

## 9775116360R
designator MP?, comment M3 x 11.6mm  (value not drawn)
WA-SMSR SMT Steel Spacer Reverse, M3 x 11.6mm; Manufacturer Part Number: 9775116360R; Manufacturer: Wurth Elektronik; Inside Diameter: 4.2mm; Outside Diameter: 6mm; Surface: Tin; ComponentLink1Description: Website Link; ComponentLink1URL: https://www.we-online.com/redexpert/article/9775116360R?ad; ComponentLink2Description: Datasheet Link; ComponentLink2URL: https://www.we-online.com/redexpert/spec/9775116360R?ad; Category: SMT Spacers; Match Code: WA-SMSR; Mount: Surface Mount; Operating Temperature Max: 150°C; Operating Temperature Min: -55°C; Packaging: Tape and Reel; Material: Steel; Pin Length: 11.6mm; Thread Size: M3
footprint 9775116360
pins: 1

## 9775116960
designator MP?, comment hole 3.2mm x 11.6mm  (value not drawn)
WA-SMSR SMT Steel Spacer Reverse, hole 3.2mm x 11.6mm; Manufacturer Part Number: 9775116960; Manufacturer: Wurth Elektronik; Inside Diameter: 4.2mm; Outside Diameter: 6mm; Surface: Tin; ComponentLink1Description: Website Link; ComponentLink1URL: https://www.we-online.com/redexpert/article/9775116960?ad; ComponentLink2Description: Datasheet Link; ComponentLink2URL: https://www.we-online.com/redexpert/spec/9775116960?ad; Category: SMT Spacers; Match Code: WA-SMSR; Mount: Surface Mount; Operating Temperature Max: 150°C; Operating Temperature Min: -55°C; Packaging: Bulk; Hole Diameter: 3.2mm; Material: Steel; Pin Length: 11.6mm
footprint 9775116960
pins: 1

## 9775116960R
designator MP?, comment hole 3.2mm x 11.6mm  (value not drawn)
WA-SMSR SMT Steel Spacer Reverse, hole 3.2mm x 11.6mm; Manufacturer Part Number: 9775116960R; Manufacturer: Wurth Elektronik; Inside Diameter: 4.2mm; Outside Diameter: 6mm; Surface: Tin; ComponentLink1Description: Website Link; ComponentLink1URL: https://www.we-online.com/redexpert/article/9775116960R?ad; ComponentLink2Description: Datasheet Link; ComponentLink2URL: https://www.we-online.com/redexpert/spec/9775116960R?ad; Category: SMT Spacers; Match Code: WA-SMSR; Mount: Surface Mount; Operating Temperature Max: 150°C; Operating Temperature Min: -55°C; Packaging: Tape and Reel; Hole Diameter: 3.2mm; Material: Steel; Pin Length: 11.6mm
footprint 9775116960
pins: 1